# Altium schematic symbol library TPS2121RUXT.SchLib: 1 symbol
Pins are listed as number, name and electrical type; pins without a type are passive.

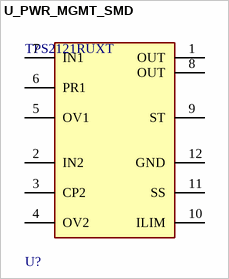
[diagram p0: symbol U_PWR_MGMT_SMD]

## U_PWR_MGMT_SMD
designator U?, comment TPS2121RUXT
-40℃~+125℃@(TJ) 2 2.8V~22V 25uA VQFN-HR-12(2x2.5) Supervisor and Reset ICs ROHS
footprint FP-RUX0012A-MFG
pins: 1 OUT, 2 IN2, 3 CP2, 4 OV2, 5 OV1, 6 PR1, 7 IN1, 8 OUT, 9 ST, 10 ILIM, 11 SS, 12 GND